# Altium schematic symbol library STPS1H100A.SchLib: 1 symbol
Pins are listed as number, name and electrical type; pins without a type are passive.

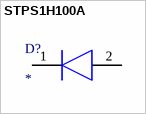
[diagram p0: symbol STPS1H100A]

## STPS1H100A
designator D?
Diode; Manufacturer_Name: STMicroelectronics; Description: STPS1H100A; Allied_Number: 70014065; Datasheet Link: http://www.st.com/web/en/resource/technical/document/datasheet/CD00001304.pdf; Height: 2.65mm; Manufacturer_Part_Number: STPS1H100A; Mouser Part Number: 511-STPS1H100A; Mouser Price/Stock: https://www.mouser.com/Search/Refine.aspx?Keyword=511-STPS1H100A; RS Part Number: 0249892P; RS Price/Stock: http://uk.rs-online.com/web/p/products/0249892P; Allied Price/Stock: http://www.alliedelec.com/stmicroelectronics-stps1h100a/70014065/
footprint DIOM5126X265N
pins: 1 K, 2 A